# Altium schematic symbol library BJT.SchLib: 1 symbol
Pins are listed as number, name and electrical type; pins without a type are passive.

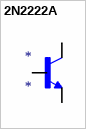
[diagram p0: symbol 2N2222A]

## 2N2222A
designator *
footprint 2N2222A
pins: 1 E, 2 B, 3 C